# Altium schematic symbol library BD136.SchLib: 1 symbol
Pins are listed as number, name and electrical type; pins without a type are passive.

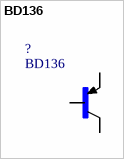
[diagram p0: symbol BD136]

## BD136
designator ?
/ Bipolar Transistor, PNP, -45V /; MF: ON Semiconductor; Price: None; Package: TO-126 Multicomp; MP: BD136; SnapEDA_Link: https://www.snapeda.com/parts/BD136/ON%20Semiconductor/view-part/?ref=snap; Availability: Unavailable; Value: *
footprint *BD136
pins: 1 E, 2 C, 3 B